# EAGLE library part SG133-SZ (library EYR_Modulos)
Bluetooth SG133-SZ Module (Chinese version)
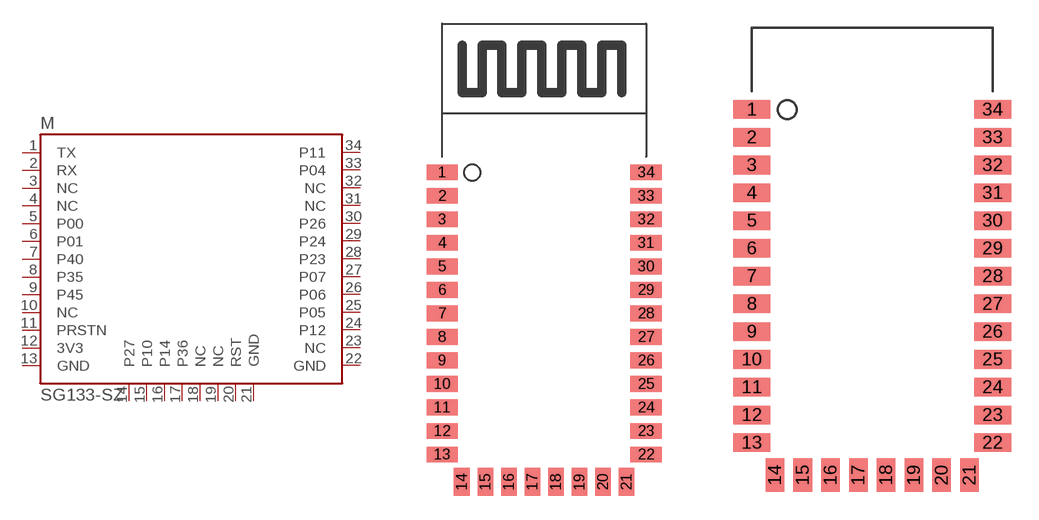
[diagram p3: symbol with the pads of BLUETOOTH_SMD; footprints BLUETOOTH_SMD, BLUETOOTH_SMDA]

Designator prefix M

## SG133-SZ_ANT  [BLUETOOTH_SMD]
1  TX
2  RX
3  NC
4  NC
5  P00
6  P01
7  P40
8  P35
9  P45
10  NC
11  PRSTN
12  3V3
13  GND
14  P27
15  P10
16  P14
17  P36
18  NC
19  NC
20  RST
21  GND
22  GND
23  NC
24  P12
25  P05
26  P06
27  P07
28  P23
29  P24
30  P26
31  NC
32  NC
33  P04
34  P11

## SG133-SZ_NANT  [BLUETOOTH_SMDA]
Pads as for BLUETOOTH_SMD

## Footprint BLUETOOTH_SMD (pad centres in mm)
SMD Bluetooth
smd 2 x 1: 1 -6.35,7.62; 2 -6.35,6.12; 3 -6.35,4.62; 4 -6.35,3.12; 5 -6.35,1.62; 6 -6.35,0.12; 7 -6.35,-1.38; 8 -6.35,-2.88; 9 -6.35,-4.38; 10 -6.35,-5.88; 11 -6.35,-7.38; 12 -6.35,-8.88; 13 -6.35,-10.38; 22 6.65,-10.38; 23 6.65,-8.88; 24 6.65,-7.38; 25 6.65,-5.88; 26 6.65,-4.38; 27 6.65,-2.88; 28 6.65,-1.38; 29 6.65,0.12; 30 6.65,1.62; 31 6.65,3.12; 32 6.65,4.62; 33 6.65,6.12; 34 6.65,7.62
smd 1 x 1.8: 14 -5.1,-12.13; 15 -3.6,-12.13; 16 -2.1,-12.13; 17 -0.6,-12.13; 18 0.9,-12.13; 19 2.4,-12.13; 20 3.9,-12.13; 21 5.4,-12.13

## Footprint BLUETOOTH_SMDA (pad centres in mm)
SMD Bluetooth without antenna
smd 2 x 1: 1 -6.35,7.62; 2 -6.35,6.12; 3 -6.35,4.62; 4 -6.35,3.12; 5 -6.35,1.62; 6 -6.35,0.12; 7 -6.35,-1.38; 8 -6.35,-2.88; 9 -6.35,-4.38; 10 -6.35,-5.88; 11 -6.35,-7.38; 12 -6.35,-8.88; 13 -6.35,-10.38; 22 6.65,-10.38; 23 6.65,-8.88; 24 6.65,-7.38; 25 6.65,-5.88; 26 6.65,-4.38; 27 6.65,-2.88; 28 6.65,-1.38; 29 6.65,0.12; 30 6.65,1.62; 31 6.65,3.12; 32 6.65,4.62; 33 6.65,6.12; 34 6.65,7.62
smd 1 x 1.8: 14 -5.1,-12.13; 15 -3.6,-12.13; 16 -2.1,-12.13; 17 -0.6,-12.13; 18 0.9,-12.13; 19 2.4,-12.13; 20 3.9,-12.13; 21 5.4,-12.13